# Altium footprint library RGB LED Diodes.PcbLib: 4 footprints
Each footprint in its own frame and in the unit in brackets; x right, y up, seen from the top. Pads: shape width x height; smd on the part's side, far side on the other; paste and mask are expansions set on the pad; w line width, h text height; cw(c..) or ccw(c..) is an arc to the next point about the centre after c.
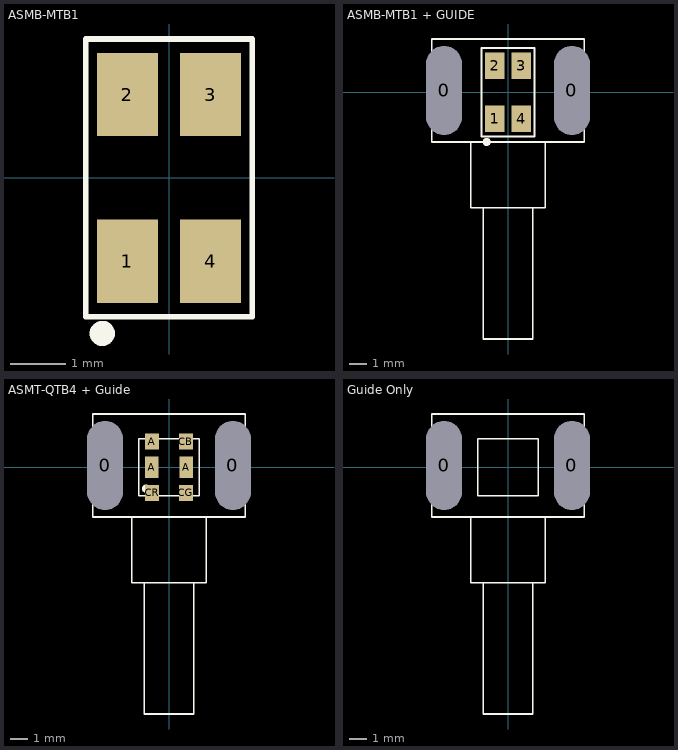
[diagram p0: the footprints below, top view; thin cyan lines are the x and y axes]

## ASMB-MTB1 [mm]
pads (4):
  rect 1.1x1.5 smd: 1(-0.75,-1.5) 2(-0.75,1.5) 3(0.75,1.5) 4(0.75,-1.5)
Top Overlay:
  circle w0.254: c-1.2,-2.8 r0.1
  lines w0.1: -1.5,-2.5 1.5,-2.5 1.5,2.5 -1.5,2.5 -1.5,-2.5

## ASMB-MTB1 + GUIDE [mm]
pads (6):
  round 1.524 hole 2 slot 5 at 90 deg unplated paste-10 mask-10: 0(-3.6,0.1) 0(3.6,0.1)
  rect 1.1x1.5 smd: 1(-0.75,-1.5) 2(-0.75,1.5) 3(0.75,1.5) 4(0.75,-1.5)
Top Overlay:
  circle w0.254: c-1.2,-2.8 r0.1
  lines w0.1: -2.1,-2.8 -2.1,-6.5 2.1,-6.5 2.1,-2.8 ; -1.4,-6.5 -1.4,-13.9 1.4,-13.9 1.4,-6.5 ; -4.3,-2.8 -4.3,3 4.3,3 4.3,-2.8 -4.3,-2.8 ; -1.5,-2.5 -1.5,2.5 1.5,2.5 1.5,-2.5 -1.5,-2.5
3D body: height 7.3, standoff 0, extent -4.3,-13.9 4.3,3

## ASMT-QTB4 + Guide [mm]
pads (8):
  round 1.524 hole 2 slot 5 at 90 deg unplated paste-10 mask-10: 0(-3.6,0.1) 0(3.6,0.1)
  rect 0.75x1.2 smd: A(-0.975,0) A(0.975,0)
  rect 0.8x0.9 smd: A(-0.95,1.45) CB(0.95,1.45) CG(0.95,-1.45) CR(-0.95,-1.45)
Top Overlay:
  circle w0.254: c-1.3,-1.2 r0.1
  lines w0.1: -2.1,-2.8 -2.1,-6.5 2.1,-6.5 2.1,-2.8 ; -1.4,-6.5 -1.4,-13.9 1.4,-13.9 1.4,-6.5 ; -4.3,-2.8 -4.3,3 4.3,3 4.3,-2.8 -4.3,-2.8 ; -1.7,-1.6 1.7,-1.6 1.7,1.6 -1.7,1.6 -1.7,-1.6
3D body: height 7.3, standoff 0, extent -4.3,-13.9 4.3,3

## Guide Only [mm]
pads (2):
  round 1.524 hole 2 slot 5 at 90 deg unplated paste-10 mask-10: 0(-3.6,0.1) 0(3.6,0.1)
Top Overlay:
  lines w0.1: -2.1,-2.8 -2.1,-6.5 2.1,-6.5 2.1,-2.8 ; -1.4,-6.5 -1.4,-13.9 1.4,-13.9 1.4,-6.5 ; -4.3,-2.8 4.3,-2.8 4.3,3 -4.3,3 -4.3,-2.8 ; -1.7,-1.6 -1.7,1.6 1.7,1.6 1.7,-1.6 -1.7,-1.6
3D body: height 7.3, standoff 0, extent -4.3,-13.9 4.3,3